# EAGLE library part BCM20737S (library bcm20737s)
BCM20737S Bluetooth Low Energy System-in-Package (SiP) Module Pad38 is NC in datasheet and GND in symbol. It can be safely be GNDed as it is not connected to die. Pad10 should be NC and left floating as it is connected to the antenna in SiP. Broadcom adds 10k pull down registers on Pad26 and Pad18 as failsafe. <http://community.broadcom.com/message/6283>
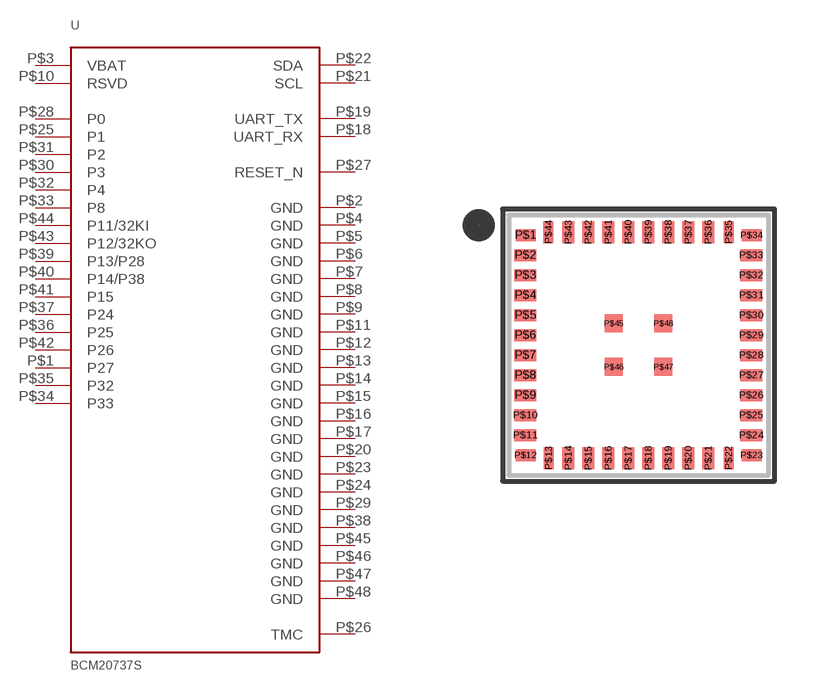
[diagram p0: symbol with the pads of BCM20737S_QFN48; footprint BCM20737S_QFN48]

Designator prefix U

## BCM20737S  [BCM20737S_QFN48]
P$1  P27
P$2  GND  pwr
P$3  VBAT  pwr
P$4  GND  pwr
P$5  GND  pwr
P$6  GND  pwr
P$7  GND  pwr
P$8  GND  pwr
P$9  GND  pwr
P$10  RSVD  nc
P$11  GND  pwr
P$12  GND  pwr
P$13  GND  pwr
P$14  GND  pwr
P$15  GND  pas
P$16  GND  pwr
P$17  GND  pwr
P$18  UART_RX  in
P$19  UART_TX  out
P$20  GND  pwr
P$21  SCL
P$22  SDA
P$23  GND  pwr
P$24  GND  pwr
P$25  P1
P$26  TMC  in
P$27  RESET_N
P$28  P0
P$29  GND  pwr
P$30  P3
P$31  P2
P$32  P4
P$33  P8
P$34  P33
P$35  P32
P$36  P25
P$37  P24
P$38  GND  pwr
P$39  P13/P28
P$40  P14/P38
P$41  P15
P$42  P26
P$43  P12/32KO
P$44  P11/32KI
P$45  GND  pwr
P$46  GND  pwr
P$47  GND  pwr
P$48  GND  pwr

## Footprint BCM20737S_QFN48 (pad centres in mm)
smd 0.5 x 0.3: P$1 -2.825,2.75; P$12 -2.825,-2.75; P$23 2.825,-2.75; P$34 2.825,2.75
smd 0.55 x 0.3: P$2 -2.83,2.25; P$3 -2.83,1.75; P$4 -2.83,1.25; P$5 -2.83,0.75; P$6 -2.83,0.25; P$7 -2.83,-0.25; P$8 -2.83,-0.75; P$9 -2.83,-1.25; P$10 -2.83,-1.75; P$11 -2.83,-2.25; P$24 2.82,-2.25; P$25 2.82,-1.75; P$26 2.82,-1.25; P$27 2.82,-0.75; P$28 2.82,-0.25; P$29 2.82,0.25; P$30 2.82,0.75; P$31 2.82,1.25; P$32 2.82,1.75; P$33 2.82,2.25
smd 0.25 x 0.55: P$13 -2.25,-2.825; P$22 2.25,-2.825; P$35 2.25,2.825; P$44 -2.255,2.825
smd 0.3 x 0.55: P$14 -1.755,-2.825; P$15 -1.255,-2.825; P$16 -0.755,-2.825; P$17 -0.255,-2.825; P$18 0.245,-2.825; P$19 0.745,-2.825; P$20 1.245,-2.825; P$21 1.745,-2.825; P$36 1.745,2.825; P$37 1.245,2.825; P$38 0.745,2.825; P$39 0.245,2.825; P$40 -0.255,2.825; P$41 -0.755,2.825; P$42 -1.255,2.825; P$43 -1.755,2.825
smd 0.45 x 0.45: P$45 -0.62,0.545; P$46 -0.62,-0.545; P$47 0.62,-0.545; P$48 0.62,0.545